# Altium footprint library project_Pcb.PcbLib: 12 footprints
Each footprint in its own frame and in the unit in brackets; x right, y up, seen from the top. Pads: shape width x height; smd on the part's side, far side on the other; paste and mask are expansions set on the pad; w line width, h text height; cw(c..) or ccw(c..) is an arc to the next point about the centre after c.
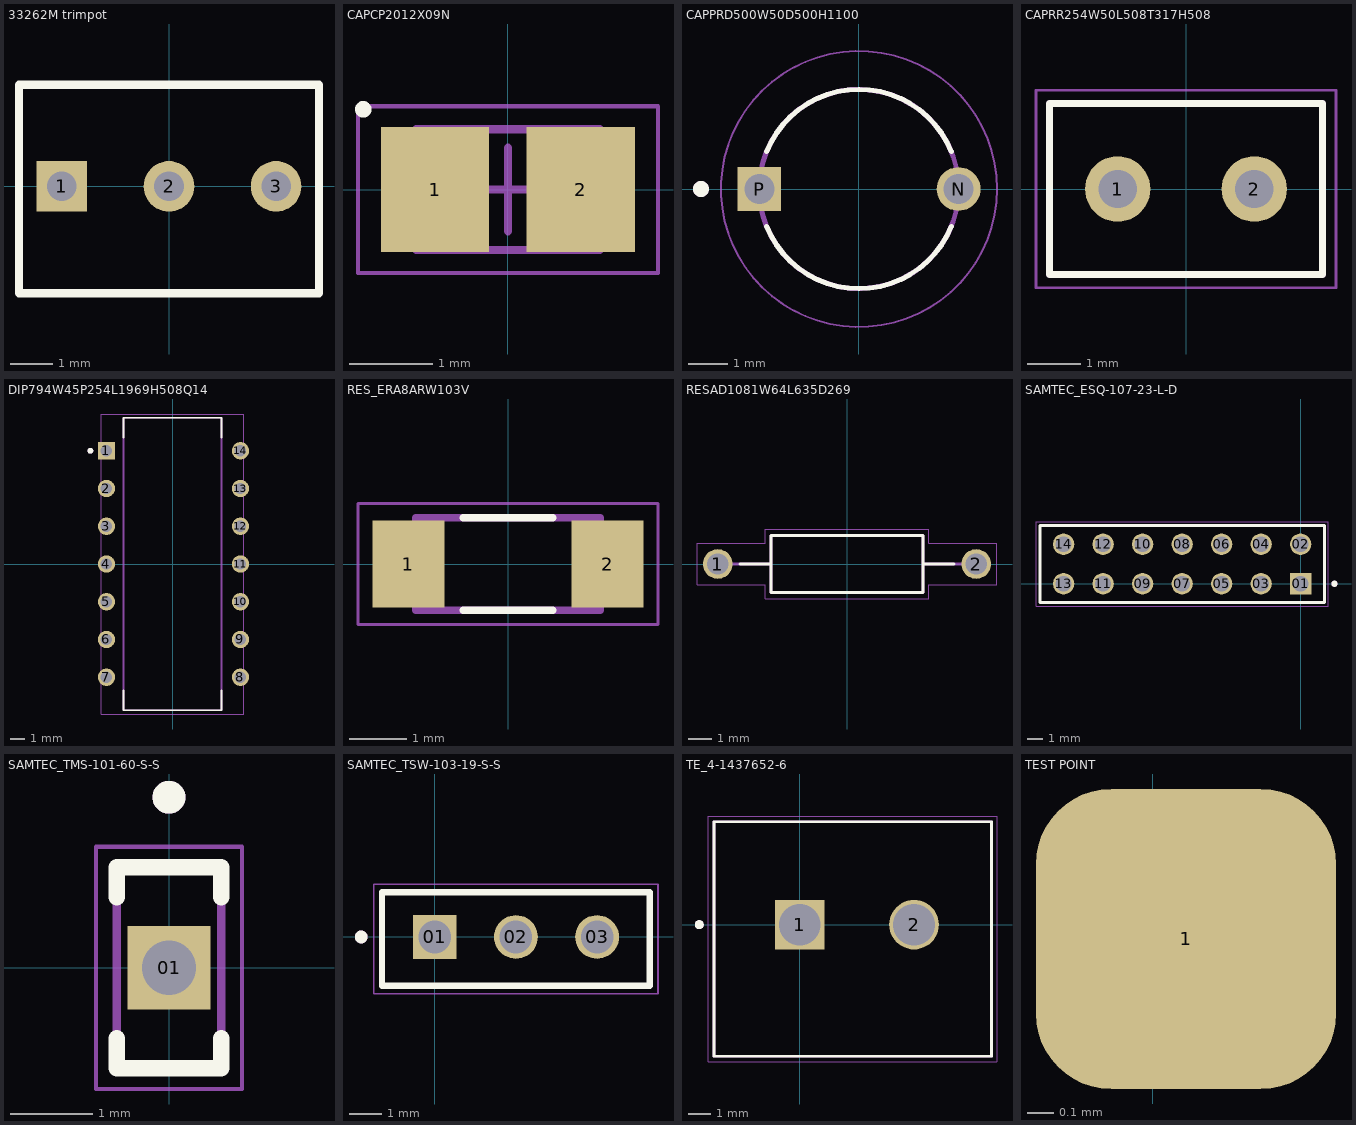
[diagram p0: the footprints below, top view; thin cyan lines are the x and y axes]

## 33262M trimpot [mm] "Thru-Hole; 3 Leads"
pads (3):
  rect 1.2x1.2 hole 0.7: 1(-2.54,0)
  round 1.2 hole 0.7: 2(0,0) 3(2.54,0)
Top Overlay:
  lines w0.2: -3.556,-2.54 -3.556,-1.302 -3.556,1.175 -3.556,2.413 3.556,2.413 3.556,-1.651 3.556,-2.54 -3.556,-2.54
3D body "User Library-Bourns 3362M.STEP": height 8.3, standoff -4.2, extent -3.3,-2.45 3.3,2.25

## CAPCP2012X09N [mm] "Chip Capacitor, 2-Leads, Body 2.00x1.25mm, IPC Medium Density"
height 0.88
pads (2):
  rect 1.3x1.5 smd: 1(-0.875,0) 2(0.875,0)
Top Overlay:
  circle w0.1: c-1.737,0.962 r0.05
Mechanical 13:
  lines w0.1: -1.1,-0.725 1.1,-0.725 1.1,0.725 -1.1,0.725 -1.1,-0.725
Mechanical 15:
  lines w0.05: -1.8,-1 1.8,-1 1.8,1 -1.8,1 -1.8,-1
  lines w0.1: -0.5,0 0.5,0 ; 0,-0.5 0,0.5
3D body "User Library-0805 SMD Capacitor.step": height 0.78, standoff 0, extent -1.051,-0.574 0.949,0.676

## CAPPRD500W50D500H1100 [mm]
pads (2):
  round 1.1 hole 0.75: N(2.5,0)
  rect 1.1x1.1 hole 0.75: P(-2.5,0)
Top Overlay:
  circle w0.2: c-3.963,0 r0.1
  lines w0.127: -2.318,-0.937 ccw(c0,0) 2.318,-0.937 ; -2.318,0.937 cw(c0,0) 2.318,0.937
Mechanical 13:
  circle w0.127: c0,0 r2.5
  circle w0.2: c-3.963,0 r0.1
Mechanical 15:
  circle w0.05: c0,0 r3.463
3D body "step_temp.STEP": height 12.52, standoff -15.48, extent -2.75,-2.5 2.75,2.5

## CAPRR254W50L508T317H508 [mm]
height 5.08
pads (2):
  round 1.218 hole 0.71: 1(-1.27,0) 2(1.27,0)
Top Overlay:
  lines w0.127: -2.54,-1.587 2.54,-1.587 2.54,1.587 -2.54,1.587 -2.54,-1.587
Mechanical 13:
  lines w0.127: -2.54,-1.587 2.54,-1.587 2.54,1.587 -2.54,1.587 -2.54,-1.587
Mechanical 15:
  lines w0.05: -2.79,-1.837 2.79,-1.837 2.79,1.837 -2.79,1.837 -2.79,-1.837
3D body "C320C104M5U5TA--3DModel-STEP-510211.STEP": height 6.85, standoff -6.49, extent -2.538,-1.651 2.538,1.529

## DIP794W45P254L1969H508Q14 [mm]
pads (14):
  rect 1.17x1.17 hole 0.77: 1(-4.445,7.62)
  round 1.17 hole 0.77: 2(-4.445,5.08) 3(-4.445,2.54) 4(-4.445,0) 5(-4.445,-2.54) 6(-4.445,-5.08) 7(-4.445,-7.62) 8(4.572,-7.62) 9(4.572,-5.08) 10(4.572,-2.54) 11(4.572,0) 12(4.572,2.54) 13(4.572,5.08) 14(4.572,7.62)
Top Overlay:
  circle w0.2: c-5.53,7.62 r0.1
  lines w0.127: -3.3,-8.525 -3.3,-9.845 3.3,-9.845 3.3,-8.525 ; -3.3,8.525 -3.3,9.845 3.3,9.845 3.3,8.525
Mechanical 13:
  circle w0.2: c-5.53,7.62 r0.1
  lines w0.127: -3.3,-9.845 -3.3,9.845 3.3,9.845 3.3,-9.845 -3.3,-9.845
Mechanical 15:
  lines w0.05: -4.805,-10.095 -4.805,10.095 4.805,10.095 4.805,-10.095 -4.805,-10.095
3D body "LM324N--3DModel-STEP-56544.STEP": height 5.08, standoff -3.17, extent -5.334,-9.779 5.588,9.525

## RES_ERA8ARW103V [mm]
pads (2):
  rect 1.25x1.5 smd: 1(-1.725,0) 2(1.725,0)
Top Overlay:
  lines w0.127: -0.78,-0.8 0.78,-0.8 ; -0.78,0.8 0.78,0.8
Mechanical 13:
  lines w0.127: -1.6,-0.8 -1.6,0.8 1.6,0.8 1.6,-0.8 -1.6,-0.8
Mechanical 15:
  lines w0.05: -2.6,-1.05 -2.6,1.05 2.6,1.05 2.6,-1.05 -2.6,-1.05
3D body "ERA-8ARW103V.STEP": height 0.6, standoff 0, extent -1.524,-0.8 1.676,0.8

## RESAD1081W64L635D269 [mm]
pads (2):
  round 1.24 hole 0.89: 1(-5.405,0) 2(5.405,0)
Top Overlay:
  lines w0.127: -4.465,0 -3.175,0 ; 3.175,0 4.465,0 ; -3.175,-1.195 -3.175,1.195 3.175,1.195 3.175,-1.195 -3.175,-1.195
Mechanical 13:
  lines w0.127: -5.405,0 -3.175,0 ; 3.175,0 5.405,0 ; -3.175,-1.195 3.175,-1.195 3.175,1.195 -3.175,1.195 -3.175,-1.195
Mechanical 15:
  lines w0.05: -6.275,-0.87 -3.425,-0.87 -3.425,-1.445 3.425,-1.445 3.425,-0.87 6.275,-0.87 6.275,0.87 3.425,0.87 3.425,1.445 -3.425,1.445 -3.425,0.87 -6.275,0.87 -6.275,-0.87
3D body "RNC55H1003FMB14.STEP": height 3.44, standoff -33.76, extent -5.598,-1.42 5.852,1.27

## SAMTEC_ESQ-107-23-L-D [mm]
pads (14):
  rect 1.37x1.37 hole 1.02: 01(0,0)
  round 1.37 hole 1.02: 02(0,2.54) 03(-2.54,0) 04(-2.54,2.54) 05(-5.08,0) 06(-5.08,2.54) 07(-7.62,0) 08(-7.62,2.54) 09(-10.16,0) 10(-10.16,2.54) 11(-12.7,0) 12(-12.7,2.54) 13(-15.24,0) 14(-15.24,2.54)
Top Overlay:
  circle w0.2: c2.175,0 r0.1
  lines w0.2: -16.765,-1.205 1.525,-1.205 1.525,3.745 -16.765,3.745 -16.765,-1.205
Mechanical 13:
  circle w0.2: c2.175,0 r0.1
  lines w0.1: -16.765,-1.205 -16.765,3.745 ; -16.765,-1.205 1.525,-1.205 ; -16.765,-1.205 -16.765,3.745 ; -16.765,3.745 1.525,3.745 ; -16.765,3.745 1.525,3.745 ; 1.525,-1.205 1.525,3.745 ; 1.525,-1.205 1.525,3.745
Mechanical 15:
  lines w0.05: -17.015,-1.455 1.775,-1.455 1.775,3.995 -17.015,3.995 -17.015,-1.455
3D body "ESQ-107-23-L-D.stp": height 13.59, standoff -4.83, extent -16.637,-1.524 1.651,3.556

## SAMTEC_TMS-101-60-S-S [mm]
pads (1):
  rect 1.01x1.01 hole 0.66: 01(0,0)
Top Overlay:
  circle w0.2: c0,2.069 r0.1
  lines w0.2: -0.635,-0.855 -0.635,-1.219 0.635,-1.219 0.635,-0.855 ; -0.635,0.855 -0.635,1.219 0.635,1.219 0.635,0.855
Mechanical 13:
  circle w0.2: c0,2.069 r0.1
  lines w0.1: -0.635,-1.219 -0.635,1.219 0.635,1.219 0.635,-1.219 -0.635,-1.219
Mechanical 15:
  lines w0.05: -0.885,-1.469 0.885,-1.469 0.885,1.469 -0.885,1.469 -0.885,-1.469
3D body "TMS-101-60-S-S.stp": height 17.91, standoff -3.05, extent -0.635,-1.219 0.635,1.219

## SAMTEC_TSW-103-19-S-S [mm]
pads (3):
  rect 1.37x1.37 hole 1.02: 01(0,0)
  round 1.37 hole 1.02: 02(2.54,0) 03(5.08,0)
Top Overlay:
  circle w0.2: c-2.301,0 r0.1
  lines w0.2: -1.651,-1.524 -1.651,1.397 6.731,1.397 6.731,-1.524 -1.651,-1.524
Mechanical 13:
  circle w0.2: c-2.301,0 r0.1
  lines w0.1: -1.651,-1.524 6.731,-1.524 6.731,1.397 -1.651,1.397 -1.651,-1.524
Mechanical 15:
  lines w0.05: -1.905,-1.778 -1.905,1.651 6.985,1.651 6.985,-1.778 -1.905,-1.778
3D body "PPPC031LFBN-RC--3DModel-STEP-269445.STEP": height 8.51, standoff -3.2, extent -1.524,-1.397 6.604,1.143

## TE_4-1437652-6 [mil]
pads (2):
  rect 86.78x86.78 hole 72.99: 1(0,0)
  round 86.78 hole 72.99: 2(200,0)
Top Overlay:
  circle w7.87: c-175.59,0 r3.94
  lines w5: 335,-230 -150,-230 -150,180 335,180 ; 335.2,-230 335.2,180
Mechanical 13:
  circle w7.87: c-175.59,0 r3.94
  lines w5: 335,180 -150,180 -150,-230 ; 335.2,-230 335.2,180 ; -150,-230 335,-230 -150,-230
Mechanical 15:
  lines w1.97: -160,-239.84 345,-239.84 ; -160,189.84 345,189.84 ; -159.84,-240 -159.84,189.84 ; 345.04,-240 345.04,189.84
3D body "Download_STP_691216510002S_rev1.stp": height 543.31, standoff -137.8, extent -116.81,-215 306.81,170.83

## TEST POINT [mil]
pads (1):
  rrect50% 45x45 smd: 1(5,45)